# Altium schematic symbol library SamacSys.SchLib: 1 symbol
Pins are listed as number, name and electrical type; pins without a type are passive.

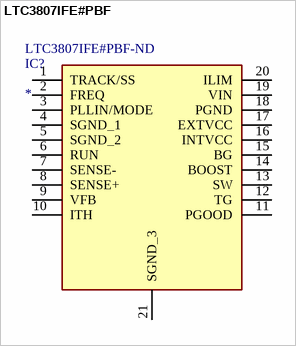
[diagram p0: symbol LTC3807IFE#PBF]

## LTC3807IFE#PBF
designator IC?  Supplier Part Number 1: LTC3807IFE#PBF-ND
Integrated Circuit; Manufacturer_Name: Analog Devices; Manufacturer_Part_Number: LTC3807IFE#PBF; Manufacturer 1: Analog Devices / Linear Technology; Number of Outputs: 1; Switching Frequency: 900kHz; Max Duty Cycle: 99%; Synchronous Rectifier: Yes; Min Supply Voltage: 4V; Max Supply Voltage: 38V; Clock Sync: No; Output Configuration: Positive; Datasheet Link: https://www.arrow.com/en/products/ltc3807ifepbf/analog-devices; Height: 1.2mm; Supplier 1: Digi-Key; Manufacturer Part Number 1: LTC3807IFE#PBF; Stock 1: 169; Pricing 1: 1=6,91000, 25=4,58840, 100=3,79400 (USD); RoHS: Yes; Case/Package: TSSOP; Number of Pins: 20; Min Operating Temperature: -40°C; Max Operating Temperature: 125°C; Packaging: Rail/Tube; Number of Output Phases: 1; REACH SVHC: No SVHC; ComponentLink1URL: http://www.linear.com/docs/45333?src-supplier=Digi-Key; ComponentLink1Description: http://www.linear.com/docs/45333?src-supplier=Digi-Key; ComponentLink2URL: http://www.farnell.com/datasheets/1852475.pdf?src-supplier=Element14; ComponentLink2Description: http://www.farnell.com/datasheets/1852475.pdf?src-supplier=Element14
footprint SOP65P640X120-21N
pins: 1 TRACK/SS, 2 FREQ, 3 PLLIN/MODE, 4 SGND_1, 5 SGND_2, 6 RUN, 7 SENSE-, 8 SENSE+, 9 VFB, 10 ITH, 11 PGOOD, 12 TG, 13 SW, 14 BOOST, 15 BG, 16 INTVCC, 17 EXTVCC, 18 PGND, 19 VIN, 20 ILIM, 21 SGND_3